# EAGLE library part BRP-98+ (library FM_transmitter)
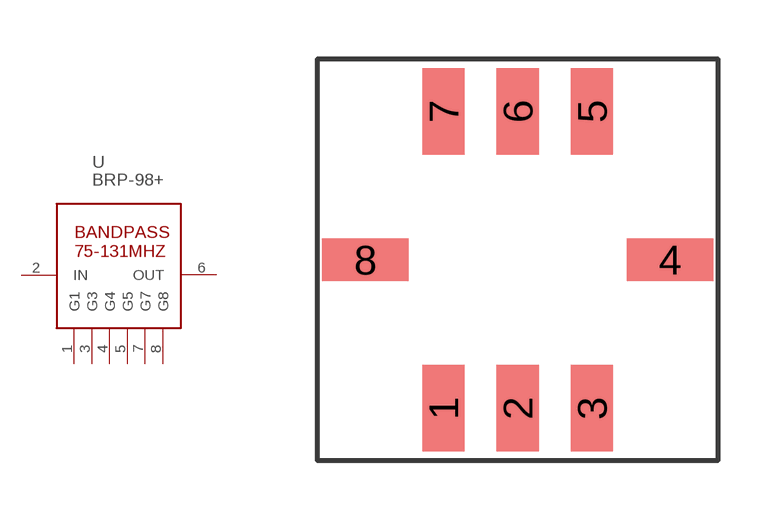
[diagram p14: symbol with the pads of RBP-98+; footprint RBP-98+]

Designator prefix -

## BRP-98+  [RBP-98+]
1  G1
2  IN
3  G3
4  G4
5  G5
6  OUT
7  G7
8  G8

## Footprint RBP-98+ (pad centres in mm)
smd 1.067 x 2.184: 1 -1.88,-3.76; 2 0,-3.76; 3 1.88,-3.76; 5 1.88,3.76; 6 0,3.76; 7 -1.88,3.76
smd 2.184 x 1.067: 4 3.86,0; 8 -3.86,0